# Altium schematic symbol library SCH - POWER - SWITCHMODE - TI TPS65320-Q1PWP.SchLib: 1 symbol
Pins are listed as number, name and electrical type; pins without a type are passive.

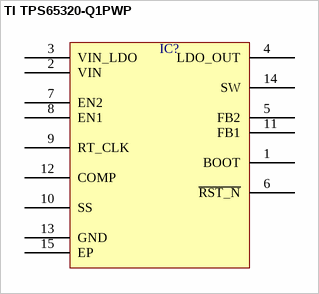
[diagram p0: symbol TI TPS65320-Q1PWP]

## TI TPS65320-Q1PWP
designator IC?  (value not drawn)
pins: 1 BOOT, 2 VIN, 3 VIN_LDO, 4 LDO_OUT, 5 FB2, 6 ~{RST_N}, 7 EN2, 8 EN1, 9 RT_CLK, 10 SS, 11 FB1, 12 COMP, 13 GND, 14 SW, 15 EP